# EAGLE library part GSM_SIM900B_LITERAL (library microbuilder)
SIM900B GSM/GPRS Module Supply: 3.1-4.8V Quad-Band: GSM 850, EGSM 900, DCS 1800, PCS 1900
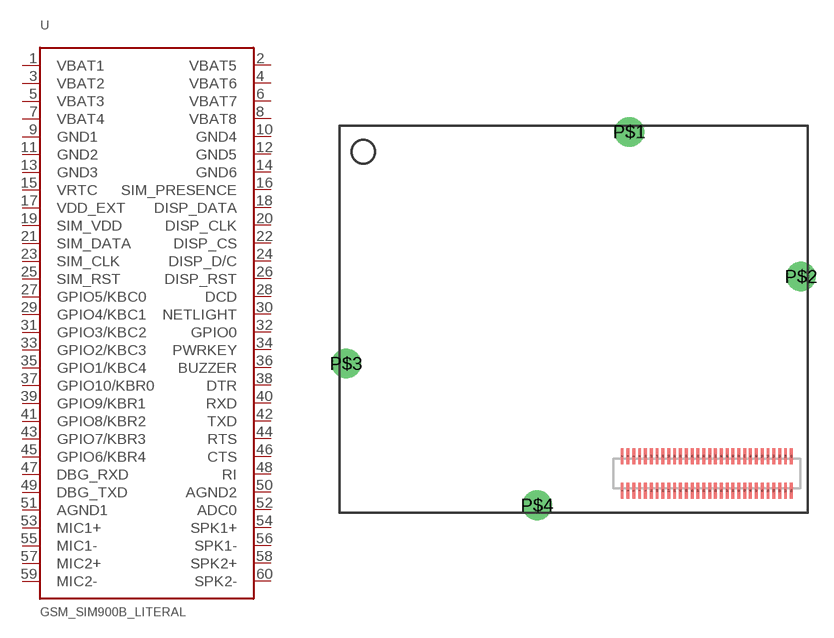
[diagram p128: symbol with the pads of SIM900B_SMT; footprint SIM900B_SMT]

Designator prefix U

## GSM_SIM900B_LITERAL  [SIM900B_SMT]
1  VBAT1  pwr
2  VBAT5  pwr
3  VBAT2  pwr
4  VBAT6  pwr
5  VBAT3  pwr
6  VBAT7  pwr
7  VBAT4  pwr
8  VBAT8  pwr
9  GND1  pwr
10  GND4  pwr
11  GND2  pwr
12  GND5  pwr
13  GND3  pwr
14  GND6  pwr
15  VRTC  pwr
16  SIM_PRESENCE  in
17  VDD_EXT  pwr
18  DISP_DATA
19  SIM_VDD  pwr
20  DISP_CLK  out
21  SIM_DATA
22  DISP_CS  out
23  SIM_CLK  out
24  DISP_D/C  out
25  SIM_RST  out
26  DISP_RST  out
27  GPIO5/KBC0  out
28  DCD  out
29  GPIO4/KBC1
30  NETLIGHT  out
31  GPIO3/KBC2
32  GPIO0
33  GPIO2/KBC3
34  PWRKEY  in
35  GPIO1/KBC4
36  BUZZER  out
37  GPIO10/KBR0  in
38  DTR  in
39  GPIO9/KBR1
40  RXD  in
41  GPIO8/KBR2
42  TXD  out
43  GPIO7/KBR3
44  RTS  in
45  GPIO6/KBR4
46  CTS  out
47  DBG_RXD  in
48  RI  out
49  DBG_TXD  out
50  AGND2  pwr
51  AGND1  pwr
52  ADC0  in
53  MIC1+  in
54  SPK1+  out
55  MIC1-  in
56  SPK1-  out
57  MIC2+  in
58  SPK2+  out
59  MIC2-  in
60  SPK2-  out

## Footprint SIM900B_SMT (pad centres in mm)
SIM900B - 60 Pin B2B Connector
smd 0.25 x 1.35: 1 -7.25,-1.475; 2 -7.25,1.475; 3 -6.75,-1.475; 4 -6.75,1.475; 5 -6.25,-1.475; 6 -6.25,1.475; 7 -5.75,-1.475; 8 -5.75,1.475; 9 -5.25,-1.475; 10 -5.25,1.475; 11 -4.75,-1.475; 12 -4.75,1.475; 13 -4.25,-1.475; 14 -4.25,1.475; 15 -3.75,-1.475; 16 -3.75,1.475; 17 -3.25,-1.475; 18 -3.25,1.475; 19 -2.75,-1.475; 20 -2.75,1.475; 21 -2.25,-1.475; 22 -2.25,1.475; 23 -1.75,-1.475; 24 -1.75,1.475; 25 -1.25,-1.475; 26 -1.25,1.475; 27 -0.75,-1.475; 28 -0.75,1.475; 29 -0.25,-1.475; 30 -0.25,1.475; 31 0.25,-1.475; 32 0.25,1.475; 33 0.75,-1.475; 34 0.75,1.475; 35 1.25,-1.475; 36 1.25,1.475; 37 1.75,-1.475; 38 1.75,1.475; 39 2.25,-1.475; 40 2.25,1.475; 41 2.75,-1.475; 42 2.75,1.475; 43 3.25,-1.475; 44 3.25,1.475; 45 3.75,-1.475; 46 3.75,1.475; 47 4.25,-1.475; 48 4.25,1.475; 49 4.75,-1.475; 50 4.75,1.475; 51 5.25,-1.475; 52 5.25,1.475; 53 5.75,-1.475; 54 5.75,1.475; 55 6.25,-1.475; 56 6.25,1.475; 57 6.75,-1.475; 58 6.75,1.475; 59 7.25,-1.475; 60 7.25,1.475
drill 1.5 pad 2.54: P$1 -6.63,29.25; P$2 8.09,16.86; P$3 -30.89,9.41; P$4 -14.53,-2.72